# EAGLE library part TX25-120P-6ST-H1E (library con-jae)
CONN PLUG 1.27MM 120POS GOLD PCB
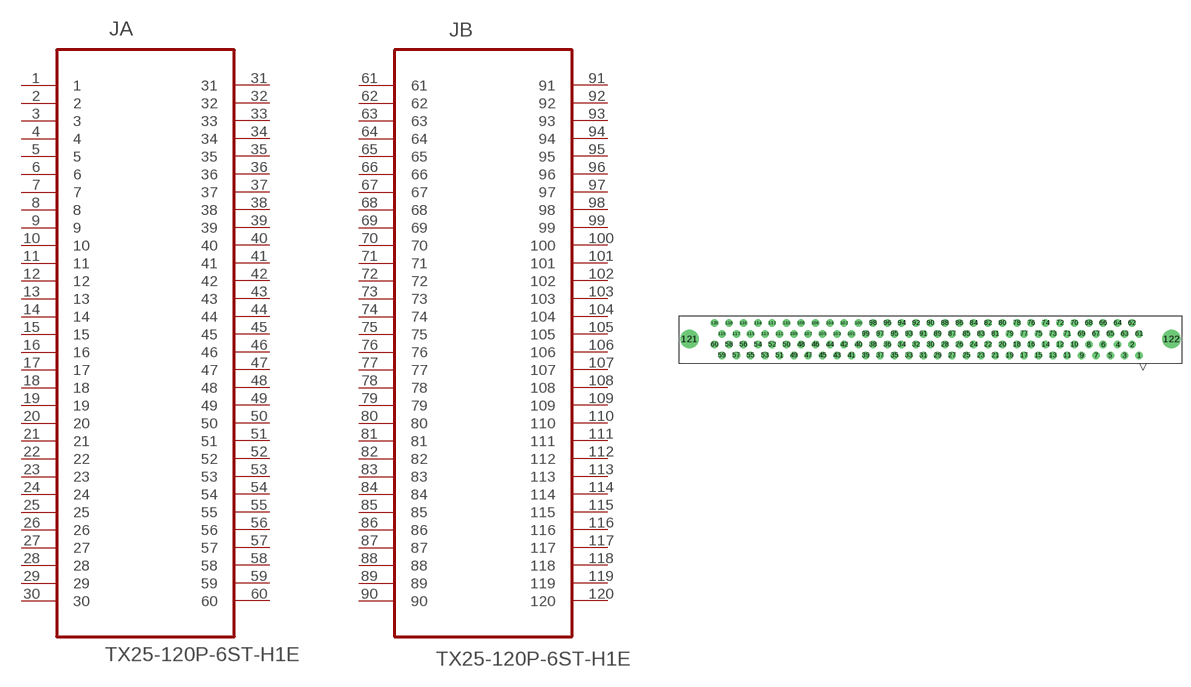
[diagram p16: symbol with the pads of JAE_TX25-120P-6ST-H1E; footprint JAE_TX25-120P-6ST-H1E]

Designator prefix J; gates A=TX25-120P-6ST-H1E_A B=TX25-120P-6ST-H1E_B

## TX25-120P-6ST-H1E (DATASHEETLINK: http://www.jae.com/z-en/pdf_download_exec.cfm?param=SJ038272.pdf; DESCRIPTION: CONN-120POS; MPN: TX25-120P-6ST-H1E; OC_FARNELL: 1519632; OC_NEWARK: 74M4887; ROHS: Yes; SUPPLIER: JAE Electronics)  [JAE_TX25-120P-6ST-H1E]
1  A:1  pas
2  A:2  pas
3  A:3  pas
4  A:4  pas
5  A:5  pas
6  A:6  pas
7  A:7  pas
8  A:8  pas
9  A:9  pas
10  A:10  pas
11  A:11  pas
12  A:12  pas
13  A:13  pas
14  A:14  pas
15  A:15  pas
16  A:16  pas
17  A:17  pas
18  A:18  pas
19  A:19  pas
20  A:20  pas
21  A:21  pas
22  A:22  pas
23  A:23  pas
24  A:24  pas
25  A:25  pas
26  A:26  pas
27  A:27  pas
28  A:28  pas
29  A:29  pas
30  A:30  pas
31  A:31  pas
32  A:32  pas
33  A:33  pas
34  A:34  pas
35  A:35  pas
36  A:36  pas
37  A:37  pas
38  A:38  pas
39  A:39  pas
40  A:40  pas
41  A:41  pas
42  A:42  pas
43  A:43  pas
44  A:44  pas
45  A:45  pas
46  A:46  pas
47  A:47  pas
48  A:48  pas
49  A:49  pas
50  A:50  pas
51  A:51  pas
52  A:52  pas
53  A:53  pas
54  A:54  pas
55  A:55  pas
56  A:56  pas
57  A:57  pas
58  A:58  pas
59  A:59  pas
60  A:60  pas
61  B:61  pas
62  B:62  pas
63  B:63  pas
64  B:64  pas
65  B:65  pas
66  B:66  pas
67  B:67  pas
68  B:68  pas
69  B:69  pas
70  B:70  pas
71  B:71  pas
72  B:72  pas
73  B:73  pas
74  B:74  pas
75  B:75  pas
76  B:76  pas
77  B:77  pas
78  B:78  pas
79  B:79  pas
80  B:80  pas
81  B:81  pas
82  B:82  pas
83  B:83  pas
84  B:84  pas
85  B:85  pas
86  B:86  pas
87  B:87  pas
88  B:88  pas
89  B:89  pas
90  B:90  pas
91  B:91  pas
92  B:92  pas
93  B:93  pas
94  B:94  pas
95  B:95  pas
96  B:96  pas
97  B:97  pas
98  B:98  pas
99  B:99  pas
100  B:100  pas
101  B:101  pas
102  B:102  pas
103  B:103  pas
104  B:104  pas
105  B:105  pas
106  B:106  pas
107  B:107  pas
108  B:108  pas
109  B:109  pas
110  B:110  pas
111  B:111  pas
112  B:112  pas
113  B:113  pas
114  B:114  pas
115  B:115  pas
116  B:116  pas
117  B:117  pas
118  B:118  pas
119  B:119  pas
120  B:120  pas

## Footprint JAE_TX25-120P-6ST-H1E (pad centres in mm)
drill 0.813: 1 36.83,-6.858; 2 35.56,-4.953; 3 34.29,-6.858; 4 33.02,-4.953; 5 31.75,-6.858; 6 30.48,-4.953; 7 29.21,-6.858; 8 27.94,-4.953; 9 26.67,-6.858; 10 25.4,-4.953; 11 24.13,-6.858; 12 22.86,-4.953; 13 21.59,-6.858; 14 20.32,-4.953; 15 19.05,-6.858; 16 17.78,-4.953; 17 16.51,-6.858; 18 15.24,-4.953; 19 13.97,-6.858; 20 12.7,-4.953; 21 11.43,-6.858; 22 10.16,-4.953; 23 8.89,-6.858; 24 7.62,-4.953; 25 6.35,-6.858; 26 5.08,-4.953; 27 3.81,-6.858; 28 2.54,-4.953; 29 1.27,-6.858; 30 0,-4.953; 31 -1.27,-6.858; 32 -2.54,-4.953; 33 -3.81,-6.858; 34 -5.08,-4.953; 35 -6.35,-6.858; 36 -7.62,-4.953; 37 -8.89,-6.858; 38 -10.16,-4.953; 39 -11.43,-6.858; 40 -12.7,-4.953; 41 -13.97,-6.858; 42 -15.24,-4.953; 43 -16.51,-6.858; 44 -17.78,-4.953; 45 -19.05,-6.858; 46 -20.32,-4.953; 47 -21.59,-6.858; 48 -22.86,-4.953; 49 -24.13,-6.858; 50 -25.4,-4.953; 51 -26.67,-6.858; 52 -27.94,-4.953; 53 -29.21,-6.858; 54 -30.48,-4.953; 55 -31.75,-6.858; 56 -33.02,-4.953; 57 -34.29,-6.858; 58 -35.56,-4.953; 59 -36.83,-6.858; 60 -38.1,-4.953; 61 36.83,-3.048; 62 35.56,-1.143; 63 34.29,-3.048; 64 33.02,-1.143; 65 31.75,-3.048; 66 30.48,-1.143; 67 29.21,-3.048; 68 27.94,-1.143; 69 26.67,-3.048; 70 25.4,-1.143; 71 24.13,-3.048; 72 22.86,-1.143; 73 21.59,-3.048; 74 20.32,-1.143; 75 19.05,-3.048; 76 17.78,-1.143; 77 16.51,-3.048; 78 15.24,-1.143; 79 13.97,-3.048; 80 12.7,-1.143; 81 11.43,-3.048; 82 10.16,-1.143; 83 8.89,-3.048; 84 7.62,-1.143; 85 6.35,-3.048; 86 5.08,-1.143; 87 3.81,-3.048; 88 2.54,-1.143; 89 1.27,-3.048; 90 0,-1.143; 91 -1.27,-3.048; 92 -2.54,-1.143; 93 -3.81,-3.048; 94 -5.08,-1.143; 95 -6.35,-3.048; 96 -7.62,-1.143; 97 -8.89,-3.048; 98 -10.16,-1.143; 99 -11.43,-3.048; 100 -12.7,-1.143; 101 -13.97,-3.048; 102 -15.24,-1.143; 103 -16.51,-3.048; 104 -17.78,-1.143; 105 -19.05,-3.048; 106 -20.32,-1.143; 107 -21.59,-3.048; 108 -22.86,-1.143; 109 -24.13,-3.048; 110 -25.4,-1.143; 111 -26.67,-3.048; 112 -27.94,-1.143; 113 -29.21,-3.048; 114 -30.48,-1.143; 115 -31.75,-3.048; 116 -33.02,-1.143; 117 -34.29,-3.048; 118 -35.56,-1.143; 119 -36.83,-3.048; 120 -38.1,-1.143
drill 2.21: 121 -42.545,-3.988; 122 42.545,-3.988